# EAGLE library part LTC-561HR (library talons)
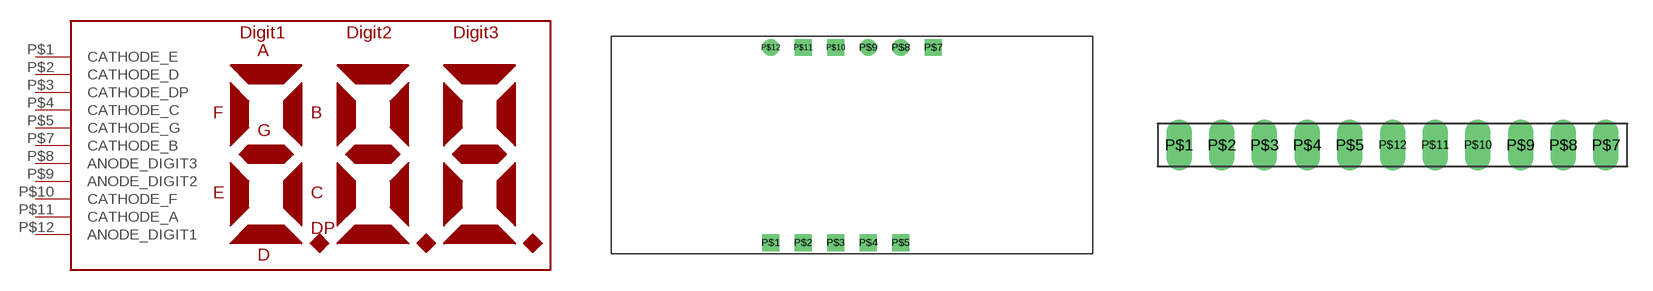
[diagram p5: symbol with the pads of LTC-561HR; footprints LTC-561HR, LTC-561HR_CONNECTOR]

Designator prefix -

## LTC-561HR  [LTC-561HR]
P$1  CATHODE_E  out
P$2  CATHODE_D  out
P$3  CATHODE_DP  out
P$4  CATHODE_C  out
P$5  CATHODE_G  out
P$7  CATHODE_B  out
P$8  ANODE_DIGIT3  in
P$9  ANODE_DIGIT2  in
P$10  CATHODE_F  out
P$11  CATHODE_A  out
P$12  ANODE_DIGIT1  in

## LTC-561HRCONNECTOR_BREAKOUT  [LTC-561HR_CONNECTOR]
Pads as for LTC-561HR

## Footprint LTC-561HR (pad centres in mm)
drill 0.8 square: P$1 -6.35,-7.62; P$2 -3.81,-7.62; P$3 -1.27,-7.62; P$4 1.27,-7.62; P$5 3.81,-7.62; P$7 6.35,7.62; P$10 -1.27,7.62; P$11 -3.81,7.62
drill 0.8: P$8 3.81,7.62; P$9 1.27,7.62; P$12 -6.35,7.62

## Footprint LTC-561HR_CONNECTOR (pad centres in mm)
drill 1 long: P$1 -12.7,0; P$2 -10.16,0; P$3 -7.62,0; P$4 -5.08,0; P$5 -2.54,0; P$7 12.7,0; P$8 10.16,0; P$9 7.62,0; P$10 5.08,0; P$11 2.54,0; P$12 0,0